# EAGLE library part SN74LVC2G80DCU (library sn74lvc2g80)
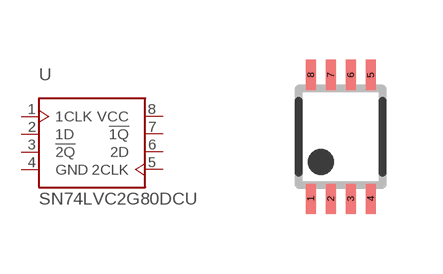
[diagram p0: symbol with the pads of DCU-TSSOP; footprint DCU-TSSOP]

Designator prefix U

## SN74LVC2G80DCU  [DCU-TSSOP]
1  1CLK  in
2  1D  in
3  !2Q  out
4  GND  pwr
5  2CLK  in
6  2D  in
7  !1Q  out
8  VCC  pwr

## Footprint DCU-TSSOP (pad centres in mm)
smd 0.25 x 0.75: 1 -0.75,-1.55; 2 -0.25,-1.55; 3 0.25,-1.55; 4 0.75,-1.55; 5 0.75,1.55; 6 0.25,1.55; 7 -0.25,1.55; 8 -0.75,1.55